# EAGLE library part STS01DTP06 (library transistor-power)
Dual NPN-PNP complementary Bipolar transistor
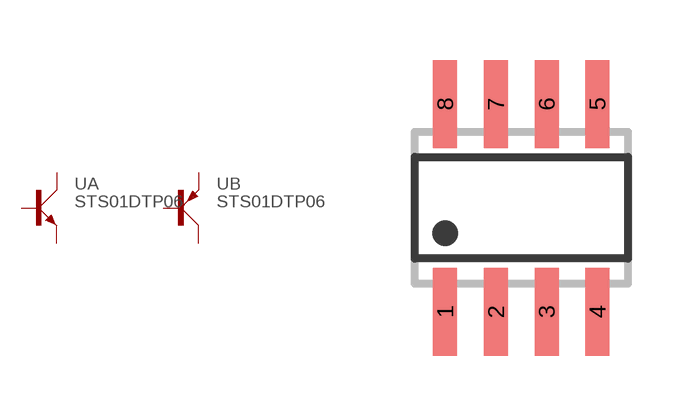
[diagram p0: symbol with the pads of SO08; footprint SO08]

Designator prefix U; gates A=NPN2 B=PNP2

## STS01DTP06  [SO08]
1  A:E  pas
2  A:B  pas
3  B:E  pas
4  B:B  pas
5  B:C1  pas
6  B:C  pas
7  A:C  pas
8  A:C  pas

## Footprint SO08 (pad centres in mm)
SMALL OUTLINE INTEGRATED CIRCUIT body 3.9 mm/JEDEC MS-012AA
smd 0.6 x 2.2: 1 -1.905,-2.6; 2 -0.635,-2.6; 3 0.635,-2.6; 4 1.905,-2.6; 5 1.905,2.6; 6 0.635,2.6; 7 -0.635,2.6; 8 -1.905,2.6